# Altium footprint library diode.PCBLIB: 206 footprints (part 11 of 13)
Each footprint in its own frame and in the unit in brackets; x right, y up, seen from the top. Pads: shape width x height; smd on the part's side, far side on the other; paste and mask are expansions set on the pad; w line width, h text height; cw(c..) or ccw(c..) is an arc to the next point about the centre after c.
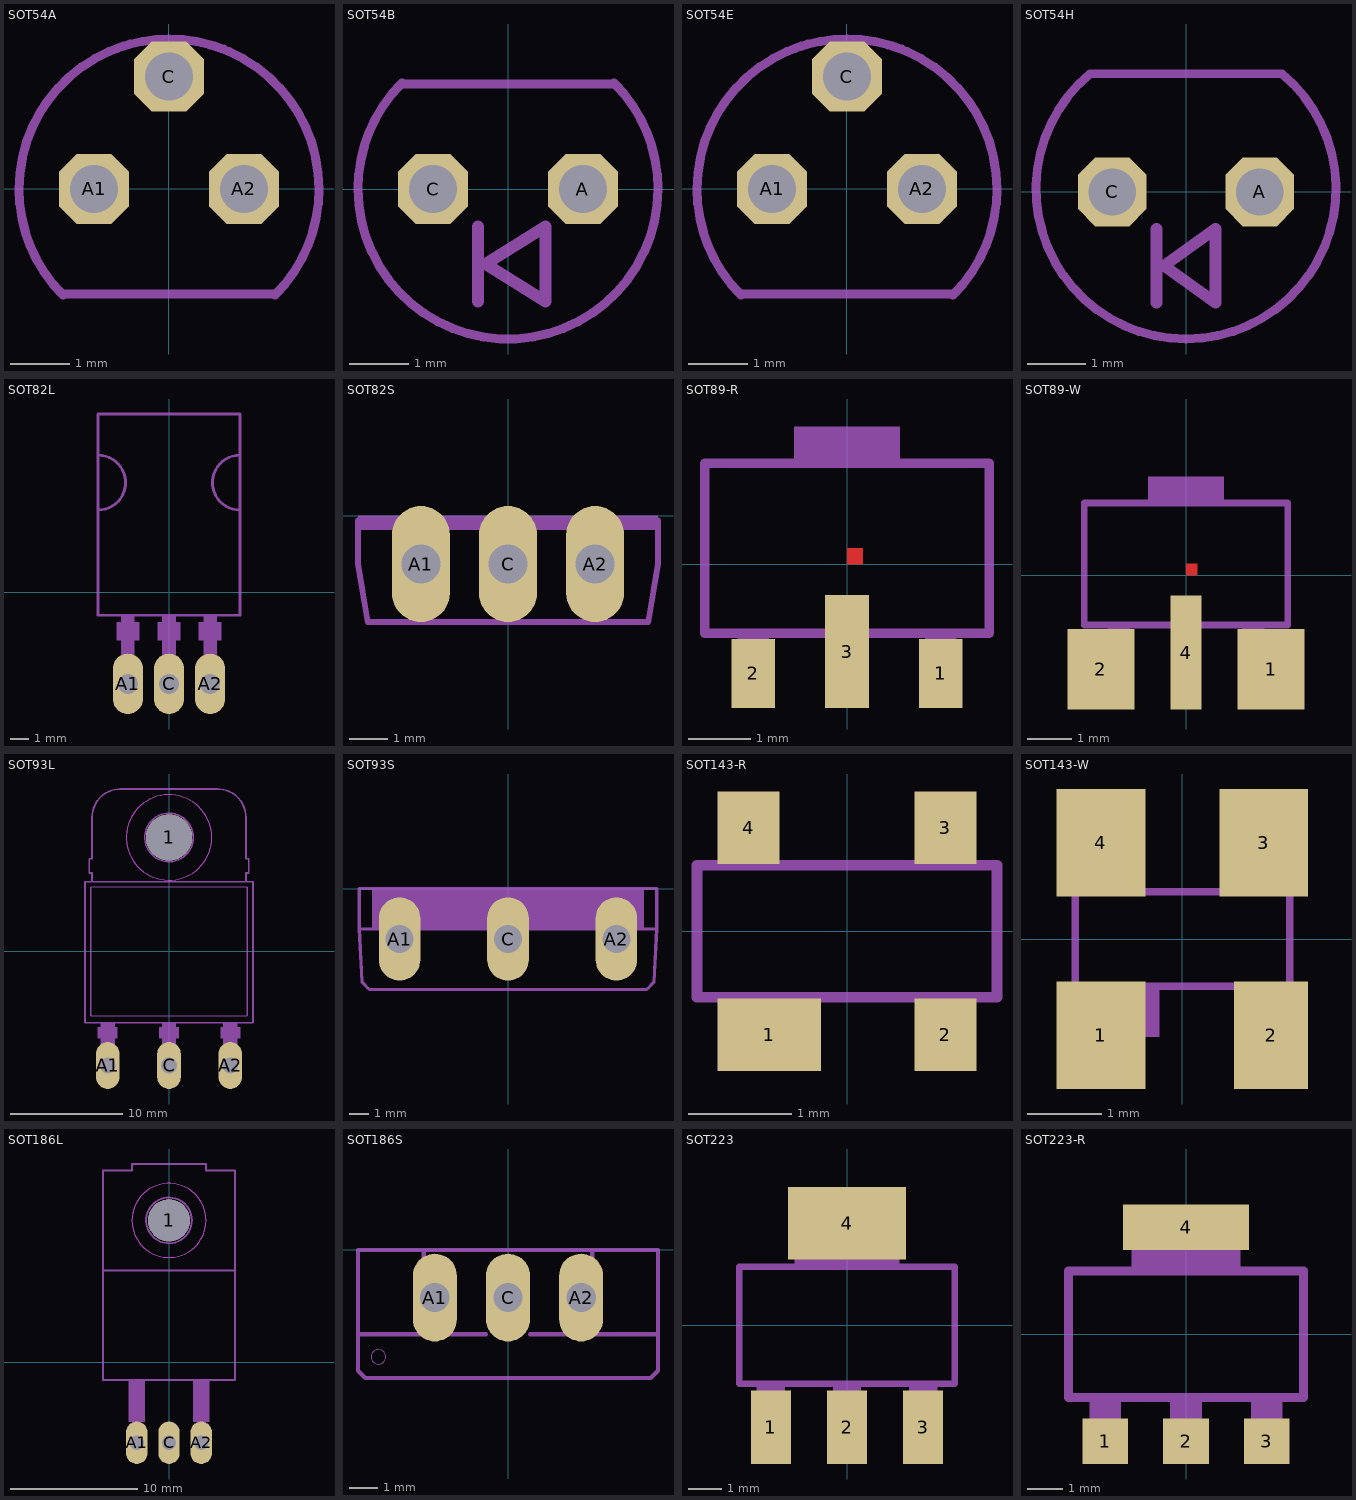
[diagram p10: the footprints below, top view; thin cyan lines are the x and y axes]

## SOT54A [mil]
pads (3):
  oct 46.48x46.48 hole 32: A1(-50,0) A2(50,0) C(0,75)
Mechanical 2:
  lines w6: -70.71,-70.71 cw(c0,0) -100,0 cw(c0,0) -30.11,95.36 ; -70,-70 70,-70 ; 30.11,95.36 cw(c0,0) 100,0 cw(c0,0) 70.71,-70.71
Mechanical 18:
  lines w6: -34.57,93.83 cw(c0.01,0) 0,100 cw(c0,0.01) 36.24,93.2

## SOT54B [mil]
pads (2):
  oct 46.48x46.48 hole 32: A(50,0) C(-50,0)
Mechanical 2:
  lines w6: -70.71,70.71 ccw(c0,0) -100,0 ccw(c0,0) 100,0 ccw(c0,0) 70.71,70.71 ; -70,70 70,70
  lines w8: -20,-75 -20,-25 ; -15,-50 25,-25 25,-75 -15,-50

## SOT54E [mil]
pads (3):
  oct 46.48x46.48 hole 32: A1(-50,0) A2(50,0) C(0,75)
Mechanical 2:
  lines w6: -70.71,-70.71 cw(c0,0) -100,0 cw(c0,0) -30.11,95.36 ; -70,-70 70,-70 ; 30.11,95.36 cw(c0,0) 100,0 cw(c0,0) 70.71,-70.71
Mechanical 18:
  lines w6: -34.57,93.83 cw(c0.01,0) 0,100 cw(c0,0.01) 36.24,93.2

## SOT54H [mil]
pads (2):
  oct 46.48x46.48 hole 32: A(50,0) C(-50,0)
Mechanical 2:
  lines w6: -65,80 ccw(c0,2) 65,80 -65,80
  lines w8: -20,-75 -20,-25 ; -15,-50 20,-25 20,-75 -15,-50

## SOT82L [mil]
pads (3):
  oval 66x132 hole 44: A1(-90,-200) A2(90,-200) C(0,-200)
Mechanical 2:
  rectangle: -25,-105 25,-65
  rectangle: 65,-105 115,-65
  rectangle: -115,-105 -65,-65
  rectangle: -105,-135 -75,-50
  rectangle: -15,-135 15,-50
  rectangle: 75,-135 105,-50
  lines w6: -155,180 -155,-50 155,-50 155,180 ; -155,180 -155,300 ; -155,180 ccw(c-155,240) -155,300 ; -155,300 -155,390 155,390 155,300 ; 155,180 155,300 ; 155,180 cw(c155,240) 155,300
Mechanical 18:
  rectangle: -105,-195 -75,-135
  rectangle: -15,-195 15,-135
  rectangle: 75,-195 105,-135

## SOT82S [mil]
pads (3):
  oval 60x120 hole 40: A1(-90,-50) A2(90,-50) C(0,-50)
Mechanical 2:
  rectangle: -155,-15 -125,0
  rectangle: -55,-15 -35,0
  rectangle: 35,-15 55,0
  rectangle: 125,-15 155,0
  lines w6: -155,-5 -155,-50 -145,-110 -110,-110 ; -70,-110 -20,-110 ; 20,-110 70,-110 ; 110,-110 145,-110 155,-50 155,-5
Mechanical 18:
  rectangle: -125,-15 -55,0
  rectangle: -35,-15 35,0
  rectangle: 55,-15 125,0
  lines w6: -110,-110 -70,-110 ; -20,-110 20,-110 ; 70,-110 110,-110

## SOT89-R [mil]
pads (3):
  rect 27.56x43.31 smd: 1(59.06,-68.9) 2(-59.06,-68.9)
  rect 27.56x70.87 smd paste-35.44 mask-35.44: 3(0,-55.12)
Top Layer:
  region: 0,0 10,0 10,10 0,10
Top Paste:
  rectangle: -13.78,-90.55 13.78,-47.24
  rectangle: -37.4,-17.72 37.4,88.58
Top Solder:
  rectangle: -17.72,-94.49 17.72,-43.31
  rectangle: -43.31,-23.62 43.31,94.49
Mechanical 2:
  lines w6: -89.46,-43.4 -89.46,63.4 -47.78,63.4 ; -36.87,-43.72 -22.74,-43.72 ; 22.19,-43.72 36.32,-43.72 ; 49.75,63.4 89.46,63.4 89.46,-43.4
Mechanical 18:
  rectangle: -68.9,-84.65 -49.21,-45.28
  rectangle: -9.84,-84.65 9.84,-45.28
  rectangle: 49.21,-84.65 68.9,-45.28
  rectangle: -33.46,64.96 33.46,86.61
  lines w6: -89.46,-43.72 89.46,-43.72 89.46,63.4 -89.46,63.4 -89.46,-43.72

## SOT89-W [mm]
pads (3):
  rect 1.5x1.8 smd: 1(1.9,-2.1) 2(-1.9,-2.1)
  rect 0.7x2.55 smd paste-1.275 mask-1.275: 4(0,-1.73)
Top Layer:
  region: 0,0 0.254,0 0.254,0.254 0,0.254
Top Paste:
  rectangle: -0.35,-3 0.35,-1.2
  rectangle: -1.125,-0.4 1.125,3.425
Top Solder:
  rectangle: -0.45,-3.1 0.45,-1.1
  rectangle: -1.3,-0.6 1.3,3.6
Mechanical 2:
  lines w0.152: -2.272,-1.102 -2.272,1.61 -1.214,1.61 ; -0.936,-1.11 -0.578,-1.11 ; 0.564,-1.11 0.923,-1.11 ; 1.264,1.61 2.272,1.61 2.272,-1.102
Mechanical 18:
  rectangle: -1.75,-2.15 -1.25,-1.15
  rectangle: -0.25,-2.15 0.25,-1.15
  rectangle: 1.25,-2.15 1.75,-1.15
  rectangle: -0.85,1.65 0.85,2.2
  lines w0.152: -2.272,-1.11 2.272,-1.11 2.272,1.61 -2.272,1.61 -2.272,-1.11

## SOT93L [mil]
pads (4):
  round 162 hole 162: 1(0,400)
  oval 82.5x165 hole 55: A1(-215,-400) A2(215,-400) C(0,-400)
Mechanical 2:
  circle w6: c0,400 r85
  rectangle: -250,-305 -180,-265
  rectangle: 180,-305 250,-265
  rectangle: -240,-325 -190,-250
  rectangle: -25,-325 25,-250
  rectangle: 190,-325 240,-250
  rectangle: -35,-305 35,-265
  lines w2: -275,-225 275,-225 ; -275,225 275,225
  lines w6: -275,-225 -275,225 ; 275,-225 275,225 ; -270,245 -270,275 -280,275 -280,325 -270,325 -270,470 cw(c-170,470) -170,570 170,570 cw(c170,470) 270,470 270,325 280,325 280,275 270,275 270,245 ; -270,245 -295,245 -295,-250 295,-250 295,245 270,245 ; -270,245 270,245
Mechanical 11 keep-out:
  circle w0: c0,400 r150
Mechanical 12:
  circle w0: c0,400 r150
Mechanical 18:
  rectangle: -240,-385 -190,-350
  rectangle: -240,-400 -190,-325
  rectangle: -25,-400 25,-325
  rectangle: 190,-400 240,-325

## SOT93S [mil]
pads (3):
  oval 82.5x165 hole 55: A1(-215,-100) A2(215,-100) C(0,-100)
Mechanical 2:
  lines w6: -135,-80 -80,-80 ; 80,-80 135,-80 ; -295,-80 -295,0 295,0 295,-80 290,-185 275,-200 -275,-200 -290,-185 -295,-80
Mechanical 18:
  rectangle: -270,-80 270,0
  lines w6: -295,-80 -135,-80 ; -80,-80 80,-80 ; 135,-80 295,-80

## SOT143-R [mm]
pads (4):
  rect 1x0.7 smd: 1(-0.75,-1)
  rect 0.6x0.7 smd: 2(0.95,-1) 3(0.95,1) 4(-0.95,1)
Mechanical 18:
  rectangle: 0.737,-1.321 1.194,-0.635
  rectangle: 0.711,0.635 1.168,1.321
  rectangle: -1.143,0.635 -0.686,1.321
  rectangle: -1.194,-1.321 -0.305,-0.635
  lines w0.102: -1.448,-0.635 1.448,-0.635 1.448,0.635 -1.448,0.635 -1.448,-0.635

## SOT143-W [mm]
pads (4):
  rect 1.2x1.45 smd: 1(-1.1,-1.3) 3(1.1,1.3) 4(-1.1,1.3)
  rect 1x1.45 smd: 2(1.2,-1.3)
Mechanical 18:
  rectangle: 0.737,-1.321 1.194,-0.635
  rectangle: 0.711,0.635 1.168,1.321
  rectangle: -1.143,0.635 -0.686,1.321
  rectangle: -1.194,-1.321 -0.305,-0.635
  lines w0.102: -1.448,-0.635 1.448,-0.635 1.448,0.635 -1.448,0.635 -1.448,-0.635

## SOT186L [mil]
pads (4):
  round 130 hole 130: 1(0,440)
  oval 66x132 hole 44: A1(-100,-250) A2(100,-250) C(0,-250)
Mechanical 2:
  circle w6: c0,440 r71
  rectangle: -125,-185 -75,-55
  rectangle: 75,-185 125,-55
  rectangle: 85,-190 115,-185
  rectangle: -115,-190 -85,-185
  rectangle: -15,-190 15,-185
  lines w6: -205,285 -205,-55 205,-55 205,285 ; -205,285 205,285 ; -205,285 -205,595 -115,595 -115,615 115,615 115,595 205,595 205,285
Mechanical 11 keep-out:
  circle w0: c0,440 r115
Mechanical 12:
  circle w0: c0,440 r115
Mechanical 18:
  rectangle: 85,-255 115,-190
  rectangle: -115,-255 -85,-190
  rectangle: -15,-255 15,-190

## SOT186S [mil]
pads (3):
  oval 60x120 hole 40: A1(-100,-65) A2(100,-65) C(0,-65)
Mechanical 2:
  circle w0: c-177,-146 r10
  lines w6: -130,-115 -205,-115 ; -70,-115 -30,-115 ; 30,-115 70,-115 ; 130,-115 205,-115 ; -205,-115 -205,-165 -195,-175 195,-175 205,-165 205,-115 ; -205,-115 -205,0 205,0 205,-115
Mechanical 18:
  lines w6: -130,-115 -115,-115 ; -115,0 -115,-115 ; -70,-115 -115,-115 ; 70,-115 115,-115 ; 115,0 115,-115 ; 130,-115 115,-115

## SOT223 [mil]
pads (4):
  rect 47.99x87.99 smd: 1(-90.98,-122.01) 2(0,-122.01) 3(90.98,-122.01)
  rect 141.73x86.61 smd: 4(0,122.01)
Mechanical 2:
  lines w8: -129.02,-70 129.02,-70 129.02,70 -129.02,70 -129.02,-70
Mechanical 18:
  rectangle: -63,71 63,144
  rectangle: -17,-144 17,-71
  rectangle: -108,-144 -74,-71
  rectangle: 74,-144 108,-71
  rectangle: -63,71 63,144
  rectangle: -17,-144 17,-71
  rectangle: -108,-144 -74,-71
  rectangle: 74,-144 108,-71

## SOT223-R [mil]
pads (4):
  rect 51.18x51.18 smd: 1(-90.55,-120.08) 2(0,-120.08) 3(90.55,-120.08)
  rect 141.73x51.18 smd: 4(0,120.08)
Mechanical 2:
  lines w10: -131.89,-70.87 -131.89,70.87 -72.83,70.87 ; -59.06,-70.87 -31.5,-70.87 ; 31.5,-70.87 59.06,-70.87 ; 72.83,70.87 131.89,70.87 131.89,-70.87
Mechanical 18:
  rectangle: -108.27,-135.83 -72.83,-74.8
  rectangle: -17.72,-135.83 17.72,-74.8
  rectangle: 72.83,-135.83 108.27,-74.8
  rectangle: -61.02,74.8 61.02,135.83
  lines w10: -131.89,-70.87 -131.89,70.87 131.89,70.87 131.89,-70.87 -131.89,-70.87